# Altium schematic symbol library SCH - POWER - SWITCHMODE - TI TPS62125DSG.SchLib: 1 symbol
Pins are listed as number, name and electrical type; pins without a type are passive.

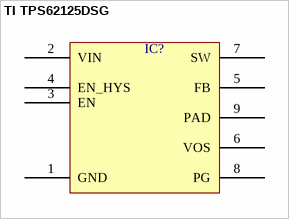
[diagram p0: symbol TI TPS62125DSG]

## TI TPS62125DSG
designator IC?  (value not drawn)
pins: 1 GND, 2 VIN, 3 EN, 4 EN_HYS, 5 FB, 6 VOS, 7 SW, 8 PG, 9 PAD